# Altium integrated library TI Power Management Hot Swap.IntLib: 76 symbols (part 3 of 5)
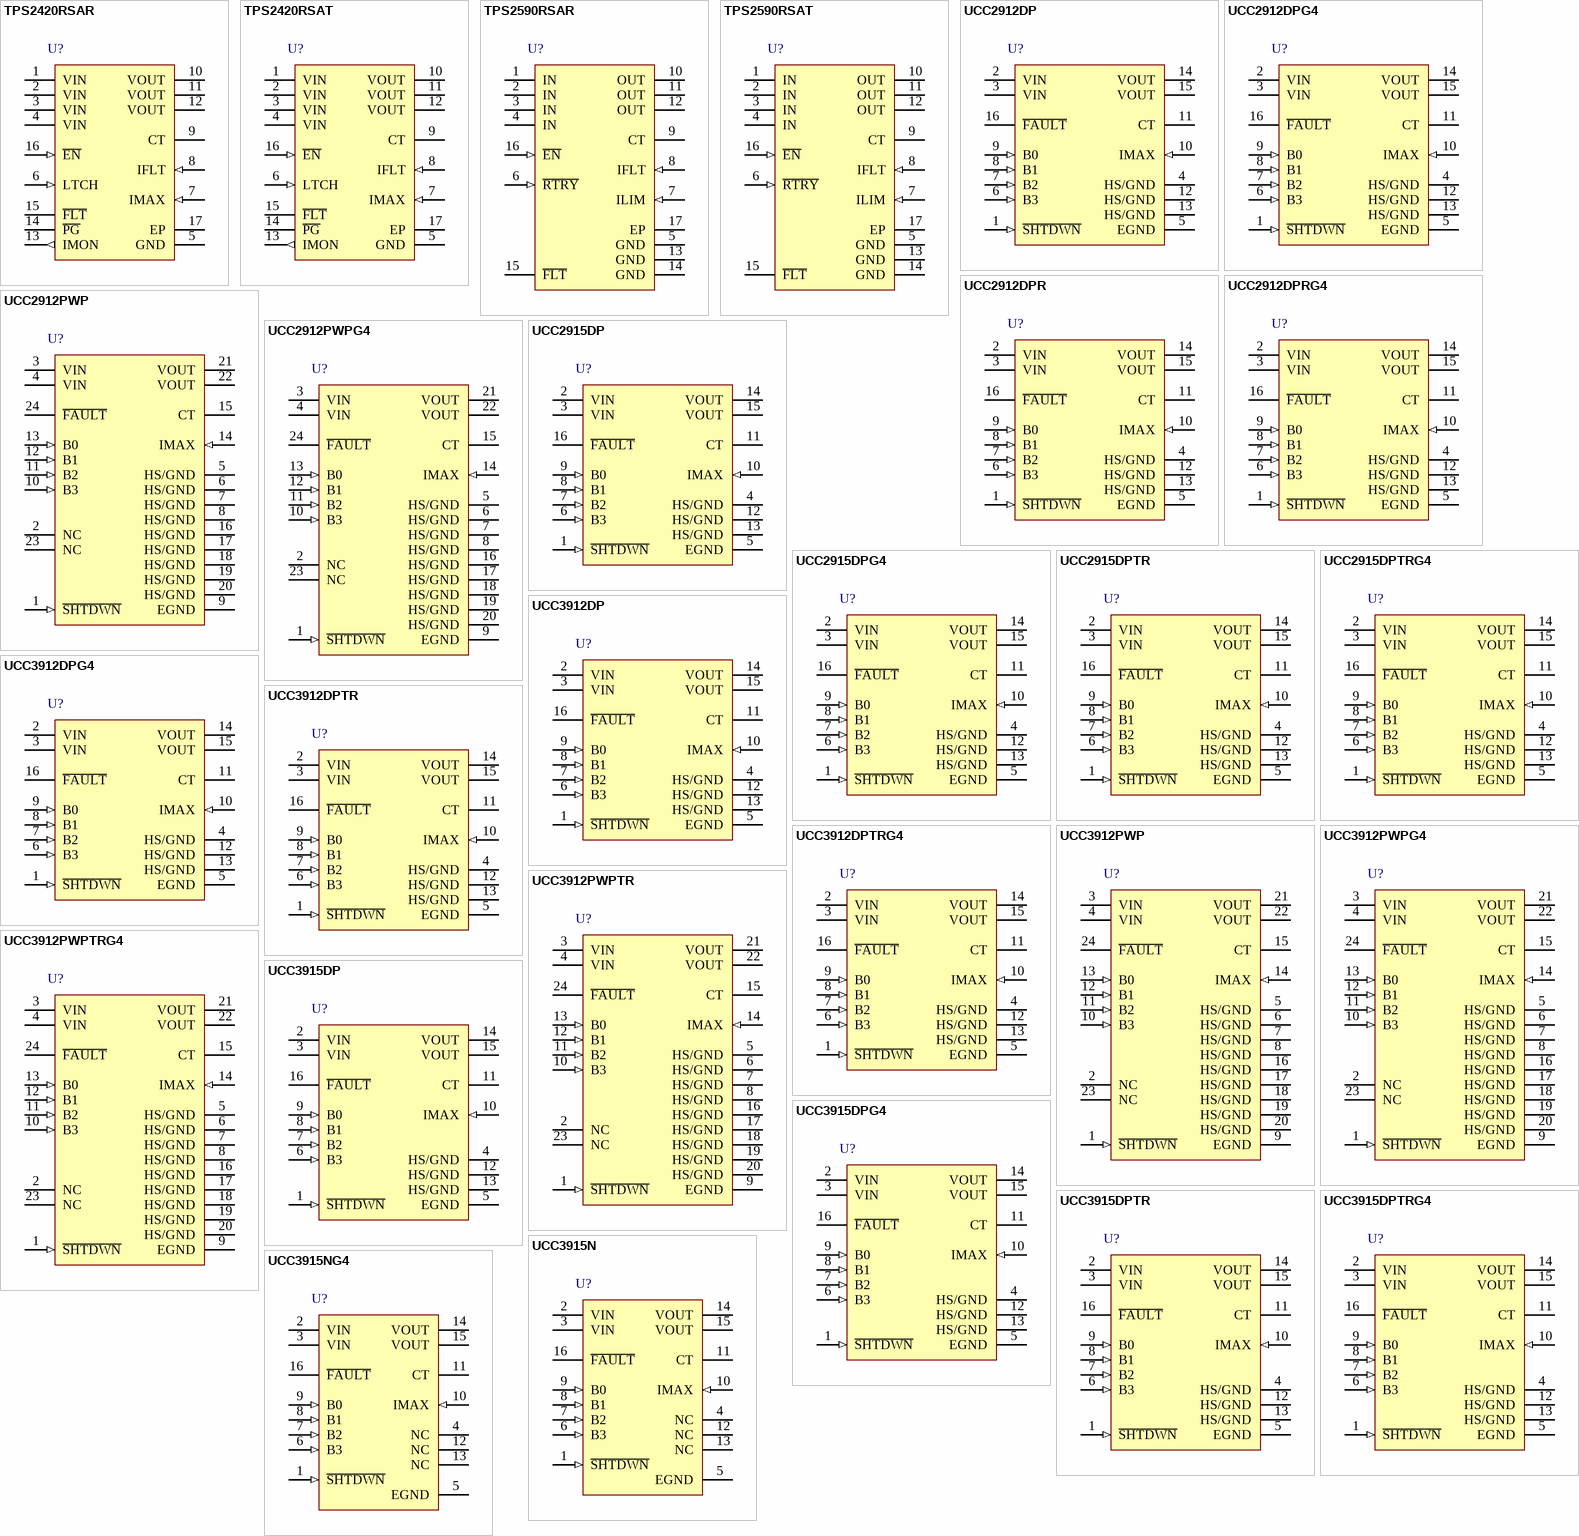
[diagram p4: symbols TPS2420RSAR to UCC3915NG4]

## UCC2912DP
designator U?
Programmable Hot Swap Switch Power Manager, -40 to 85 degC, 16-pin SOIC (D), Green (RoHS & no Sb/Br); Manufacturer: Texas Instruments; PartNumber: UCC2912DP; Over Temp Reporting: TRUE; Rds(ON) FET(Typ)(mOhms): 150; SubFamily: Hot-Swap Switch (Integrated FET); Vin(Max)(V): 8; Vin(Min)(V): 3; DatasheetVersion: SLUS241D; PackageVersion: revM, Jun-2011; PackageReference: D16; PackageDescription: 16-Pin Plastic Small Outline Integrated Circuit, 9.9 x 3.9 mm, Pitch 1.27 mm Pitch; Supplier 1: Digi-Key; Supplier Part Number 1: 296-16715-5-ND; Supplier 2: Newark; Supplier Part Number 2: 87H4709; Supplier 3: Mouser; Supplier Part Number 3: 595-UCC2912DP; Eco-Plan: Green (RoHS & no Sb/Br); Mounting Technology: Surface Mount; Code_JEDEC: MS-012AC; ComponentLink1Description: Datasheet; ComponentLink1URL: http://www.ti.com/general/docs/lit/getliterature.tsp?genericPartNumber=UCC2912&fileType=pdf; ComponentLink2Description: URL Link1; ComponentLink2URL: Samples URL:http://www.ti.com/product/ucc2912#samples
footprint D16_N (SOIC, 16-Leads, Body 9.9x3.9mm, Pitch 1.27mm, IPC Medium Density)
footprint D16_L (SOIC, 16-Leads, Body 9.9x3.9mm, Pitch 1.27mm, IPC High Density)
footprint D16_M (SOIC, 16-Leads, Body 9.9x3.9mm, Pitch 1.27mm, IPC Low Density)
pins: 1 ~{SHTDWN} (in) "When this pin is brought to a logic low, the IC is put into a sleep mode drawing typically less than 1 uA of ICC. The input threshold is hysteretic, allowing the user to program a startup delay with an external RC circuit.", 2 VIN (power) "Input voltage to the UCC3912. The recommended voltage range is 3 V to 8 V. Both VIN pins should be connected together and to the power source.", 3 VIN (power) "Input voltage to the UCC3912. The recommended voltage range is 3 V to 8 V. Both VIN pins should be connected together and to the power source.", 4 HS/GND (power) "The ground reference for the device.", 5 EGND (power) "The ground reference for the device.", 6 B3 (in) "These pins provide digital input to the DAC which sets the fault current threshold. They can be used to provide a digital soft-start, adaptive current limiting.", 7 B2 (in) "These pins provide digital input to the DAC which sets the fault current threshold. They can be used to provide a digital soft-start, adaptive current limiting.", 8 B1 (in) "These pins provide digital input to the DAC which sets the fault current threshold. They can be used to provide a digital soft-start, adaptive current limiting.", 9 B0 (in) "These pins provide digital input to the DAC which sets the fault current threshold. They can be used to provide a digital soft-start, adaptive current limiting.", 10 IMAX (in) "When this pin is set to logic low the maximum sourcing current will always be 1 A above the programmed fault level. When set to logic high, the maximum sourcing current will be a constant 4 A for applications which require (See Datasheet)", 11 CT "A capacitor connected to ground sets the maximum fault time. The maximum fault time must be more than the time to charge the external capacitance in one cycle. The maximum fault time is defined as FAULT = 27.8 x 10^3 x CT. (See Datasheet)", 12 HS/GND (power) "The ground reference for the device.", 13 HS/GND (power) "The ground reference for the device.", 14 VOUT (power) "Output voltage from the UCC3912. When switched the output voltage will be approximately VIN - (0.15 ohm x IOUT). Both VOUT pins should be connected together and to the load.", 15 VOUT (power) "Output voltage from the UCC3912. When switched the output voltage will be approximately VIN - (0.15 ohm x IOUT). Both VOUT pins should be connected together and to the load.", 16 ~{FAULT} (oc) "Open drain output which pulls low upon any condition which causes the output to open: fault, thermal shutdown, or shutdown."

## UCC2912DPG4
designator U?
Programmable Hot Swap Switch Power Manager, -40 to 85 degC, 16-pin SOIC (D), Green (RoHS & no Sb/Br); Manufacturer: Texas Instruments; PartNumber: UCC2912DPG4; Over Temp Reporting: TRUE; Rds(ON) FET(Typ)(mOhms): 150; SubFamily: Hot-Swap Switch (Integrated FET); Vin(Max)(V): 8; Vin(Min)(V): 3; DatasheetVersion: SLUS241D; PackageVersion: revM, Jun-2011; PackageReference: D16; PackageDescription: 16-Pin Plastic Small Outline Integrated Circuit, 9.9 x 3.9 mm, Pitch 1.27 mm Pitch; Supplier 1: Digi-Key; Supplier Part Number 1: UCC2912DPG4-ND; Supplier 2: Newark; Supplier Part Number 2: 58K7053; Supplier 3: Mouser; Supplier Part Number 3: 595-UCC2912DPG4; Eco-Plan: Green (RoHS & no Sb/Br); Mounting Technology: Surface Mount; Code_JEDEC: MS-012AC; ComponentLink1Description: Datasheet; ComponentLink1URL: http://www.ti.com/general/docs/lit/getliterature.tsp?genericPartNumber=UCC2912&fileType=pdf; ComponentLink2Description: URL Link1; ComponentLink2URL: Samples URL:http://www.ti.com/product/ucc2912#samples
footprint D16_N (SOIC, 16-Leads, Body 9.9x3.9mm, Pitch 1.27mm, IPC Medium Density)
footprint D16_L (SOIC, 16-Leads, Body 9.9x3.9mm, Pitch 1.27mm, IPC High Density)
footprint D16_M (SOIC, 16-Leads, Body 9.9x3.9mm, Pitch 1.27mm, IPC Low Density)
pins: 1 ~{SHTDWN} (in) "When this pin is brought to a logic low, the IC is put into a sleep mode drawing typically less than 1 uA of ICC. The input threshold is hysteretic, allowing the user to program a startup delay with an external RC circuit.", 2 VIN (power) "Input voltage to the UCC3912. The recommended voltage range is 3 V to 8 V. Both VIN pins should be connected together and to the power source.", 3 VIN (power) "Input voltage to the UCC3912. The recommended voltage range is 3 V to 8 V. Both VIN pins should be connected together and to the power source.", 4 HS/GND (power) "The ground reference for the device.", 5 EGND (power) "The ground reference for the device.", 6 B3 (in) "These pins provide digital input to the DAC which sets the fault current threshold. They can be used to provide a digital soft-start, adaptive current limiting.", 7 B2 (in) "These pins provide digital input to the DAC which sets the fault current threshold. They can be used to provide a digital soft-start, adaptive current limiting.", 8 B1 (in) "These pins provide digital input to the DAC which sets the fault current threshold. They can be used to provide a digital soft-start, adaptive current limiting.", 9 B0 (in) "These pins provide digital input to the DAC which sets the fault current threshold. They can be used to provide a digital soft-start, adaptive current limiting.", 10 IMAX (in) "When this pin is set to logic low the maximum sourcing current will always be 1 A above the programmed fault level. When set to logic high, the maximum sourcing current will be a constant 4 A for applications which require (See Datasheet)", 11 CT "A capacitor connected to ground sets the maximum fault time. The maximum fault time must be more than the time to charge the external capacitance in one cycle. The maximum fault time is defined as FAULT = 27.8 x 10^3 x CT. (See Datasheet)", 12 HS/GND (power) "The ground reference for the device.", 13 HS/GND (power) "The ground reference for the device.", 14 VOUT (power) "Output voltage from the UCC3912. When switched the output voltage will be approximately VIN - (0.15 ohm x IOUT). Both VOUT pins should be connected together and to the load.", 15 VOUT (power) "Output voltage from the UCC3912. When switched the output voltage will be approximately VIN - (0.15 ohm x IOUT). Both VOUT pins should be connected together and to the load.", 16 ~{FAULT} (oc) "Open drain output which pulls low upon any condition which causes the output to open: fault, thermal shutdown, or shutdown."

## UCC2912DPR
designator U?
Programmable Hot Swap Switch Power Manager, 3 to 8 V, -40 to 85 degC, 16-pin SOIC (D), Green (RoHS & no Sb/Br); Manufacturer: Texas Instruments; PartNumber: UCC2912DPR; Over Temp Reporting: TRUE; Rds(ON) FET(Typ)(mOhms): 150; SubFamily: Hot-Swap Switch (Integrated FET); Vin(Max)(V): 8; Vin(Min)(V): 3; DatasheetVersion: SLUS241D; PackageVersion: revM, Jun-2011; PackageReference: D16; PackageDescription: 16-Pin Plastic Small Outline Integrated Circuit, 9.9 x 3.9 mm, Pitch 1.27 mm Pitch; Supplier 1: Digi-Key; Supplier Part Number 1: UCC2912DPR-ND; Supplier 2: Newark; Supplier Part Number 2: 87H4710; Supplier 3: Mouser; Supplier Part Number 3: 595-UCC2912DPR; Eco-Plan: Green (RoHS & no Sb/Br); Mounting Technology: Surface Mount; Code_JEDEC: MS-012AC; ComponentLink1Description: Datasheet; ComponentLink1URL: http://www.ti.com/general/docs/lit/getliterature.tsp?genericPartNumber=UCC2912&fileType=pdf; ComponentLink2Description: URL Link1; ComponentLink2URL: Samples URL:http://www.ti.com/product/ucc2912#samples
footprint D16_N (SOIC, 16-Leads, Body 9.9x3.9mm, Pitch 1.27mm, IPC Medium Density)
footprint D16_L (SOIC, 16-Leads, Body 9.9x3.9mm, Pitch 1.27mm, IPC High Density)
footprint D16_M (SOIC, 16-Leads, Body 9.9x3.9mm, Pitch 1.27mm, IPC Low Density)
pins: 1 ~{SHTDWN} (in) "When this pin is brought to a logic low, the IC is put into a sleep mode drawing typically less than 1 uA of ICC. The input threshold is hysteretic, allowing the user to program a startup delay with an external RC circuit.", 2 VIN (power) "Input voltage to the UCC3912. The recommended voltage range is 3 V to 8 V. Both VIN pins should be connected together and to the power source.", 3 VIN (power) "Input voltage to the UCC3912. The recommended voltage range is 3 V to 8 V. Both VIN pins should be connected together and to the power source.", 4 HS/GND (power) "The ground reference for the device.", 5 EGND (power) "The ground reference for the device.", 6 B3 (in) "These pins provide digital input to the DAC which sets the fault current threshold. They can be used to provide a digital soft-start, adaptive current limiting.", 7 B2 (in) "These pins provide digital input to the DAC which sets the fault current threshold. They can be used to provide a digital soft-start, adaptive current limiting.", 8 B1 (in) "These pins provide digital input to the DAC which sets the fault current threshold. They can be used to provide a digital soft-start, adaptive current limiting.", 9 B0 (in) "These pins provide digital input to the DAC which sets the fault current threshold. They can be used to provide a digital soft-start, adaptive current limiting.", 10 IMAX (in) "When this pin is set to logic low the maximum sourcing current will always be 1 A above the programmed fault level. When set to logic high, the maximum sourcing current will be a constant 4 A for applications which require (See Datasheet)", 11 CT "A capacitor connected to ground sets the maximum fault time. The maximum fault time must be more than the time to charge the external capacitance in one cycle. The maximum fault time is defined as FAULT = 27.8 x 10^3 x CT. (See Datasheet)", 12 HS/GND (power) "The ground reference for the device.", 13 HS/GND (power) "The ground reference for the device.", 14 VOUT (power) "Output voltage from the UCC3912. When switched the output voltage will be approximately VIN - (0.15 ohm x IOUT). Both VOUT pins should be connected together and to the load.", 15 VOUT (power) "Output voltage from the UCC3912. When switched the output voltage will be approximately VIN - (0.15 ohm x IOUT). Both VOUT pins should be connected together and to the load.", 16 ~{FAULT} (oc) "Open drain output which pulls low upon any condition which causes the output to open: fault, thermal shutdown, or shutdown."

## UCC2912DPRG4
designator U?
Programmable Hot Swap Switch Power Manager, 3 to 8 V, -40 to 85 degC, 16-pin SOIC (D), Green (RoHS & no Sb/Br); Manufacturer: Texas Instruments; PartNumber: UCC2912DPRG4; Over Temp Reporting: TRUE; Rds(ON) FET(Typ)(mOhms): 150; SubFamily: Hot-Swap Switch (Integrated FET); Vin(Max)(V): 8; Vin(Min)(V): 3; DatasheetVersion: SLUS241D; PackageVersion: revM, Jun-2011; PackageReference: D16; PackageDescription: 16-Pin Plastic Small Outline Integrated Circuit, 9.9 x 3.9 mm, Pitch 1.27 mm Pitch; Supplier 1: Digi-Key; Supplier Part Number 1: UCC2912DPRG4-ND; Supplier 2: Newark; Supplier Part Number 2: 54K2060; Supplier 3: Mouser; Supplier Part Number 3: 595-UCC2912DPRG4; Eco-Plan: Green (RoHS & no Sb/Br); Mounting Technology: Surface Mount; Code_JEDEC: MS-012AC; ComponentLink1Description: Datasheet; ComponentLink1URL: http://www.ti.com/general/docs/lit/getliterature.tsp?genericPartNumber=UCC2912&fileType=pdf; ComponentLink2Description: URL Link1; ComponentLink2URL: Samples URL:http://www.ti.com/product/ucc2912#samples
footprint D16_N (SOIC, 16-Leads, Body 9.9x3.9mm, Pitch 1.27mm, IPC Medium Density)
footprint D16_L (SOIC, 16-Leads, Body 9.9x3.9mm, Pitch 1.27mm, IPC High Density)
footprint D16_M (SOIC, 16-Leads, Body 9.9x3.9mm, Pitch 1.27mm, IPC Low Density)
pins: 1 ~{SHTDWN} (in) "When this pin is brought to a logic low, the IC is put into a sleep mode drawing typically less than 1 uA of ICC. The input threshold is hysteretic, allowing the user to program a startup delay with an external RC circuit.", 2 VIN (power) "Input voltage to the UCC3912. The recommended voltage range is 3 V to 8 V. Both VIN pins should be connected together and to the power source.", 3 VIN (power) "Input voltage to the UCC3912. The recommended voltage range is 3 V to 8 V. Both VIN pins should be connected together and to the power source.", 4 HS/GND (power) "The ground reference for the device.", 5 EGND (power) "The ground reference for the device.", 6 B3 (in) "These pins provide digital input to the DAC which sets the fault current threshold. They can be used to provide a digital soft-start, adaptive current limiting.", 7 B2 (in) "These pins provide digital input to the DAC which sets the fault current threshold. They can be used to provide a digital soft-start, adaptive current limiting.", 8 B1 (in) "These pins provide digital input to the DAC which sets the fault current threshold. They can be used to provide a digital soft-start, adaptive current limiting.", 9 B0 (in) "These pins provide digital input to the DAC which sets the fault current threshold. They can be used to provide a digital soft-start, adaptive current limiting.", 10 IMAX (in) "When this pin is set to logic low the maximum sourcing current will always be 1 A above the programmed fault level. When set to logic high, the maximum sourcing current will be a constant 4 A for applications which require (See Datasheet)", 11 CT "A capacitor connected to ground sets the maximum fault time. The maximum fault time must be more than the time to charge the external capacitance in one cycle. The maximum fault time is defined as FAULT = 27.8 x 10^3 x CT. (See Datasheet)", 12 HS/GND (power) "The ground reference for the device.", 13 HS/GND (power) "The ground reference for the device.", 14 VOUT (power) "Output voltage from the UCC3912. When switched the output voltage will be approximately VIN - (0.15 ohm x IOUT). Both VOUT pins should be connected together and to the load.", 15 VOUT (power) "Output voltage from the UCC3912. When switched the output voltage will be approximately VIN - (0.15 ohm x IOUT). Both VOUT pins should be connected together and to the load.", 16 ~{FAULT} (oc) "Open drain output which pulls low upon any condition which causes the output to open: fault, thermal shutdown, or shutdown."

## UCC2912PWP
designator U?
Programmable Hot Swap Switch Power Manager, -40 to 85 degC, 24-pin TSSOP (PW), Green (RoHS & no Sb/Br); Manufacturer: Texas Instruments; PartNumber: UCC2912PWP; Over Temp Reporting: TRUE; Rds(ON) FET(Typ)(mOhms): 150; SubFamily: Hot-Swap Switch (Integrated FET); Vin(Max)(V): 8; Vin(Min)(V): 3; DatasheetVersion: SLUS241D; PackageVersion: revG, Feb-2011; PackageReference: PW24; PackageDescription: 24-Pin Thin Small Outline Package 0.65 mm Pitch; Supplier 1: Digi-Key; Supplier Part Number 1: 296-16716-ND; Supplier 2: Newark; Supplier Part Number 2: 87H4711; Supplier 3: Mouser; Supplier Part Number 3: 595-UCC2912PWP; Eco-Plan: Green (RoHS & no Sb/Br); Mounting Technology: Surface Mount; Code_JEDEC: MO-153; ComponentLink1Description: Datasheet; ComponentLink1URL: http://www.ti.com/general/docs/lit/getliterature.tsp?genericPartNumber=UCC2912&fileType=pdf; ComponentLink2Description: URL Link1; ComponentLink2URL: Samples URL:http://www.ti.com/product/ucc2912#samples
footprint PW24_N (TSOP, 24-Leads, Body 7.8x4.4mm, Pitch 0.65mm, IPC Medium Density)
footprint PW24_L (TSOP, 24-Leads, Body 7.8x4.4mm, Pitch 0.65mm, IPC High Density)
footprint PW24_M (TSOP, 24-Leads, Body 7.8x4.4mm, Pitch 0.65mm, IPC Low Density)
pins: 1 ~{SHTDWN} (in) "When this pin is brought to a logic low, the IC is put into a sleep mode drawing typically less than 1 uA of ICC. The input threshold is hysteretic, allowing the user to program a startup delay with an external RC circuit.", 2 NC "Not connected.", 3 VIN (power) "Input voltage to the UCC3912. The recommended voltage range is 3 V to 8 V. Both VIN pins should be connected together and to the power source.", 4 VIN (power) "Input voltage to the UCC3912. The recommended voltage range is 3 V to 8 V. Both VIN pins should be connected together and to the power source.", 5 HS/GND (power) "(ground) All voltages measured with respect to ground.", 6 HS/GND (power) "(ground) All voltages measured with respect to ground.", 7 HS/GND (power) "(ground) All voltages measured with respect to ground.", 8 HS/GND (power) "(ground) All voltages measured with respect to ground.", 9 EGND (power) "(ground) All voltages measured with respect to ground.", 10 B3 (in) "The pin provides digital input to the DAC which sets the fault current threshold. It can be used to provide a digital soft-start, adaptive current limiting.", 11 B2 (in) "The pin provides digital input to the DAC which sets the fault current threshold. It can be used to provide a digital soft-start, adaptive current limiting.", 12 B1 (in) "The pin provides digital input to the DAC which sets the fault current threshold. It can be used to provide a digital soft-start, adaptive current limiting.", 13 B0 (in) "The pin provides digital input to the DAC which sets the fault current threshold. It can be used to provide a digital soft-start, adaptive current limiting.", 14 IMAX (in) "When this pin is set to logic low the maximum sourcing current will always be 1 A above the programmed fault level. When set to logic high, the maximum sourcing current will be a constant 4 A for applications which require (See Datasheet)", 15 CT "A capacitor connected to ground sets the maximum fault time. The maximum fault time must be more than the time to charge the external capacitance in one cycle. The maximum fault time is defined as FAULT = 27.8 x 103 x CT. (See Datasheet)", 16 HS/GND (power) "(ground) All voltages measured with respect to ground.", 17 HS/GND (power) "(ground) All voltages measured with respect to ground.", 18 HS/GND (power) "(ground) All voltages measured with respect to ground.", 19 HS/GND (power) "(ground) All voltages measured with respect to ground.", 20 HS/GND (power) "(ground) All voltages measured with respect to ground.", 21 VOUT (power) "Output voltage from the UCC3912. When switched the output voltage will be approximately VIN - (0.15 ohm x IOUT). Both VOUT pins should be connected together and to the load.", 22 VOUT (power) "Output voltage from the UCC3912. When switched the output voltage will be approximately VIN - (0.15 ohm x IOUT). Both VOUT pins should be connected together and to the load.", 23 NC "Not connected.", 24 ~{FAULT} (oc) "Open drain output which pulls low upon any condition which causes the output to open: fault, thermal shutdown, or shutdown."

## UCC2912PWPG4
designator U?
Programmable Hot Swap Switch Power Manager, -40 to 85 degC, 24-pin TSSOP (PW), Green (RoHS & no Sb/Br); Manufacturer: Texas Instruments; PartNumber: UCC2912PWPG4; Rds(ON) FET(Typ)(mOhms): 150; SubFamily: Hot-Swap Switch (Integrated FET); Vin(Max)(V): 8; Vin(Min)(V): 3; DatasheetVersion: SLUS241D; PackageVersion: revG, Feb-2011; PackageReference: PW24; PackageDescription: 24-Pin Thin Small Outline Package 0.65 mm Pitch; Supplier 1: Digi-Key; Supplier Part Number 1: UCC2912PWPG4-ND; Supplier 2: Newark; Supplier Part Number 2: 04M0325; Supplier 3: Mouser; Supplier Part Number 3: 595-UCC2912PWPG4; Eco-Plan: Green (RoHS & no Sb/Br); Mounting Technology: Surface Mount; Code_JEDEC: MO-153; ComponentLink1Description: Datasheet; ComponentLink1URL: http://www.ti.com/general/docs/lit/getliterature.tsp?genericPartNumber=UCC2912&fileType=pdf; ComponentLink2Description: URL Link1; ComponentLink2URL: Samples URL:http://www.ti.com/product/tps2590#samples
footprint PW24_N (TSOP, 24-Leads, Body 7.8x4.4mm, Pitch 0.65mm, IPC Medium Density)
footprint PW24_L (TSOP, 24-Leads, Body 7.8x4.4mm, Pitch 0.65mm, IPC High Density)
footprint PW24_M (TSOP, 24-Leads, Body 7.8x4.4mm, Pitch 0.65mm, IPC Low Density)
pins: 1 ~{SHTDWN} (in) "When this pin is brought to a logic low, the IC is put into a sleep mode drawing typically less than 1 uA of ICC. The input threshold is hysteretic, allowing the user to program a startup delay with an external RC circuit.", 2 NC "Not connected.", 3 VIN (power) "Input voltage to the UCC3912. The recommended voltage range is 3 V to 8 V. Both VIN pins should be connected together and to the power source.", 4 VIN (power) "Input voltage to the UCC3912. The recommended voltage range is 3 V to 8 V. Both VIN pins should be connected together and to the power source.", 5 HS/GND (power) "(ground) All voltages measured with respect to ground.", 6 HS/GND (power) "(ground) All voltages measured with respect to ground.", 7 HS/GND (power) "(ground) All voltages measured with respect to ground.", 8 HS/GND (power) "(ground) All voltages measured with respect to ground.", 9 EGND (power) "(ground) All voltages measured with respect to ground.", 10 B3 (in) "The pin provides digital input to the DAC which sets the fault current threshold. It can be used to provide a digital soft-start, adaptive current limiting.", 11 B2 (in) "The pin provides digital input to the DAC which sets the fault current threshold. It can be used to provide a digital soft-start, adaptive current limiting.", 12 B1 (in) "The pin provides digital input to the DAC which sets the fault current threshold. It can be used to provide a digital soft-start, adaptive current limiting.", 13 B0 (in) "The pin provides digital input to the DAC which sets the fault current threshold. It can be used to provide a digital soft-start, adaptive current limiting.", 14 IMAX (in) "When this pin is set to logic low the maximum sourcing current will always be 1 A above the programmed fault level. When set to logic high, the maximum sourcing current will be a constant 4 A for applications which require (See Datasheet)", 15 CT "A capacitor connected to ground sets the maximum fault time. The maximum fault time must be more than the time to charge the external capacitance in one cycle. The maximum fault time is defined as FAULT = 27.8 x 103 x CT. (See Datasheet)", 16 HS/GND (power) "(ground) All voltages measured with respect to ground.", 17 HS/GND (power) "(ground) All voltages measured with respect to ground.", 18 HS/GND (power) "(ground) All voltages measured with respect to ground.", 19 HS/GND (power) "(ground) All voltages measured with respect to ground.", 20 HS/GND (power) "(ground) All voltages measured with respect to ground.", 21 VOUT (power) "Output voltage from the UCC3912. When switched the output voltage will be approximately VIN - (0.15 ohm x IOUT). Both VOUT pins should be connected together and to the load.", 22 VOUT (power) "Output voltage from the UCC3912. When switched the output voltage will be approximately VIN - (0.15 ohm x IOUT). Both VOUT pins should be connected together and to the load.", 23 NC "Not connected.", 24 ~{FAULT} (oc) "Open drain output which pulls low upon any condition which causes the output to open: fault, thermal shutdown, or shutdown."

## UCC2915DP
designator U?
0 to 3 A, 7 to 15 V Single Hot-Swap IC Hi-Side MOSFET, 100 uA IQ in Sleep Mode, -40 to 85 degC, 16-pin SOIC (D), Green (RoHS & no Sb/Br); Manufacturer: Texas Instruments; PartNumber: UCC2915DP; Over Temp Reporting: TRUE; Rds(ON) FET(Typ)(mOhms): 150; SubFamily: Hot-Swap Switch (Integrated FET); Vin(Max)(V): 15; Vin(Min)(V): 7; DatasheetVersion: SLUS198C; PackageVersion: revM, Jun-2011; PackageReference: D16; PackageDescription: 16-Pin Plastic Small Outline Integrated Circuit, 9.9 x 3.9 mm, Pitch 1.27 mm Pitch; Supplier 1: Digi-Key; Supplier Part Number 1: 296-2329-5-ND; Supplier 2: Newark; Supplier Part Number 2: 77C2190; Supplier 3: Mouser; Supplier Part Number 3: 595-UCC2915DP; Eco-Plan: Green (RoHS & no Sb/Br); Mounting Technology: Surface Mount; Code_JEDEC: MS-012AC; ComponentLink1Description: Datasheet; ComponentLink1URL: http://www.ti.com/general/docs/lit/getliterature.tsp?genericPartNumber=UCC2915&fileType=pdf; ComponentLink2Description: URL Link1; ComponentLink2URL: Samples URL:http://www.ti.com/product/ucc2915#samples
footprint D16_N (SOIC, 16-Leads, Body 9.9x3.9mm, Pitch 1.27mm, IPC Medium Density)
footprint D16_L (SOIC, 16-Leads, Body 9.9x3.9mm, Pitch 1.27mm, IPC High Density)
footprint D16_M (SOIC, 16-Leads, Body 9.9x3.9mm, Pitch 1.27mm, IPC Low Density)
pins: 1 ~{SHTDWN} (in) "When this pin is brought to a logic low, the IC is put into a sleep mode drawing typically less than 100 uA of ICC.The input threshold is hysteretic, allowing the user to program a startup delay with an external RC circuit.", 2 VIN (power) "Input voltage to the UCC3915. The recommended voltage range is 7 V to 15 V. Both VIN pins should be connected together and connected to the power source.", 3 VIN (power) "Input voltage to the UCC3915. The recommended voltage range is 7 V to 15 V. Both VIN pins should be connected together and connected to the power source.", 4 HS/GND (power) "These pins should be connected to large etch areas to help dissipate heat.", 5 EGND (power) "Earth connection.", 6 B3 (in) "These pins provide digital input to the DAC, which sets the fault-current threshold. They can be used to provide a digital soft-start and adaptive-current limiting.", 7 B2 (in) "These pins provide digital input to the DAC, which sets the fault-current threshold. They can be used to provide a digital soft-start and adaptive-current limiting.", 8 B1 (in) "These pins provide digital input to the DAC, which sets the fault-current threshold. They can be used to provide a digital soft-start and adaptive-current limiting.", 9 B0 (in) "These pins provide digital input to the DAC, which sets the fault-current threshold. They can be used to provide a digital soft-start and adaptive-current limiting.", 10 IMAX (in) "When this pin is set to a logic low, the maximum-sourcing current will always be 1 A above the programmed-fault level. When set to a logic high, the maximum-sourcing current will be a constant 4 A for applications which (See Datasheet)", 11 CT "A capacitor connected to ground sets the maximum-fault time. The maximum-fault time must be more than the time required to charge the external capacitance in one cycle. The maximum-fault time is defined as TFAULT = 16.1 x (See Datasheet)", 12 HS/GND (power) "These pins should be connected to large etch areas to help dissipate heat.", 13 HS/GND (power) "These pins should be connected to large etch areas to help dissipate heat.", 14 VOUT (power) "Output voltage from the UCC3915. Both VOUT pins should be connected together and connected to the load. When switched the output voltage will be approximately VIN - (0.15 ohmx IOUT). VOUT must not exceed VIN by greater than (See Datasheet)", 15 VOUT (power) "Output voltage from the UCC3915. Both VOUT pins should be connected together and connected to the load. When switched the output voltage will be approximately VIN - (0.15 ohmx IOUT). VOUT must not exceed VIN by greater than (See Datasheet)", 16 ~{FAULT} (oc) "Open-drain output, which pulls low upon any fault or interrupt condition, or thermal shutdown."

## UCC2915DPG4
designator U?
0 to 3 A, 7 to 15 V Single Hot-Swap IC Hi-Side MOSFET, 100 uA IQ in Sleep Mode, -40 to 85 degC, 16-pin SOIC (D), Green (RoHS & no Sb/Br); Manufacturer: Texas Instruments; PartNumber: UCC2915DPG4; Over Temp Reporting: TRUE; Rds(ON) FET(Typ)(mOhms): 150; SubFamily: Hot-Swap Switch (Integrated FET); Vin(Max)(V): 15; Vin(Min)(V): 7; DatasheetVersion: SLUS198C; PackageVersion: revM, Jun-2011; PackageReference: D16; PackageDescription: 16-Pin Plastic Small Outline Integrated Circuit, 9.9 x 3.9 mm, Pitch 1.27 mm Pitch; Supplier 1: Digi-Key; Supplier Part Number 1: UCC2915DPG4-ND; Supplier 2: Newark; Supplier Part Number 2: 70K5900; Supplier 3: Mouser; Supplier Part Number 3: 595-UCC2915DPG4; Eco-Plan: Green (RoHS & no Sb/Br); Mounting Technology: Surface Mount; Code_JEDEC: MS-012AC; ComponentLink1Description: Datasheet; ComponentLink1URL: http://www.ti.com/general/docs/lit/getliterature.tsp?genericPartNumber=UCC2915&fileType=pdf; ComponentLink2Description: URL Link1; ComponentLink2URL: Samples URL:http://www.ti.com/product/ucc2915#samples
footprint D16_N (SOIC, 16-Leads, Body 9.9x3.9mm, Pitch 1.27mm, IPC Medium Density)
footprint D16_L (SOIC, 16-Leads, Body 9.9x3.9mm, Pitch 1.27mm, IPC High Density)
footprint D16_M (SOIC, 16-Leads, Body 9.9x3.9mm, Pitch 1.27mm, IPC Low Density)
pins: 1 ~{SHTDWN} (in) "When this pin is brought to a logic low, the IC is put into a sleep mode drawing typically less than 100 uA of ICC.The input threshold is hysteretic, allowing the user to program a startup delay with an external RC circuit.", 2 VIN (power) "Input voltage to the UCC3915. The recommended voltage range is 7 V to 15 V. Both VIN pins should be connected together and connected to the power source.", 3 VIN (power) "Input voltage to the UCC3915. The recommended voltage range is 7 V to 15 V. Both VIN pins should be connected together and connected to the power source.", 4 HS/GND (power) "These pins should be connected to large etch areas to help dissipate heat.", 5 EGND (power) "Earth connection.", 6 B3 (in) "These pins provide digital input to the DAC, which sets the fault-current threshold. They can be used to provide a digital soft-start and adaptive-current limiting.", 7 B2 (in) "These pins provide digital input to the DAC, which sets the fault-current threshold. They can be used to provide a digital soft-start and adaptive-current limiting.", 8 B1 (in) "These pins provide digital input to the DAC, which sets the fault-current threshold. They can be used to provide a digital soft-start and adaptive-current limiting.", 9 B0 (in) "These pins provide digital input to the DAC, which sets the fault-current threshold. They can be used to provide a digital soft-start and adaptive-current limiting.", 10 IMAX (in) "When this pin is set to a logic low, the maximum-sourcing current will always be 1 A above the programmed-fault level. When set to a logic high, the maximum-sourcing current will be a constant 4 A for applications which (See Datasheet)", 11 CT "A capacitor connected to ground sets the maximum-fault time. The maximum-fault time must be more than the time required to charge the external capacitance in one cycle. The maximum-fault time is defined as TFAULT = 16.1 x (See Datasheet)", 12 HS/GND (power) "These pins should be connected to large etch areas to help dissipate heat.", 13 HS/GND (power) "These pins should be connected to large etch areas to help dissipate heat.", 14 VOUT (power) "Output voltage from the UCC3915. Both VOUT pins should be connected together and connected to the load. When switched the output voltage will be approximately VIN - (0.15 ohmx IOUT). VOUT must not exceed VIN by greater than (See Datasheet)", 15 VOUT (power) "Output voltage from the UCC3915. Both VOUT pins should be connected together and connected to the load. When switched the output voltage will be approximately VIN - (0.15 ohmx IOUT). VOUT must not exceed VIN by greater than (See Datasheet)", 16 ~{FAULT} (oc) "Open-drain output, which pulls low upon any fault or interrupt condition, or thermal shutdown."

## UCC2915DPTR
designator U?
0 to 3 A, 7 to 15 V Single Hot-Swap IC Hi-Side MOSFET, 100 uA IQ in Sleep Mode, -40 to 85 degC, 16-pin SOIC (D); Manufacturer: Texas Instruments; PartNumber: UCC2915DPTR; Eco-Plan: Green (RoHS & no Sb/Br); Over Temp Reporting: TRUE; Rds(ON) FET(Typ)(mOhms): 150; SubFamily: Hot-Swap Switch (Integrated FET); Vin(Max)(V): 15; Vin(Min)(V): 7; DatasheetVersion: SLUS198C; PackageVersion: revM, Jun-2011; PackageReference: D16; PackageDescription: 16-Pin Plastic Small Outline Integrated Circuit, 9.9 x 3.9 mm, Pitch 1.27 mm Pitch; Supplier 1: Digi-Key; Supplier Part Number 1: UCC2915DPTR-ND; Supplier 2: Newark; Supplier Part Number 2: 77C2191; Supplier 3: Mouser; Supplier Part Number 3: 595-UCC2915DPTR; Mounting Technology: Surface Mount; Code_JEDEC: MS-012AC; ComponentLink1Description: Datasheet; ComponentLink1URL: http://www.ti.com/general/docs/lit/getliterature.tsp?genericPartNumber=UCC2915&fileType=pdf; ComponentLink2Description: URL Link1; ComponentLink2URL: Samples URL:http://www.ti.com/product/ucc2915#samples
footprint D16_N (SOIC, 16-Leads, Body 9.9x3.9mm, Pitch 1.27mm, IPC Medium Density)
footprint D16_L (SOIC, 16-Leads, Body 9.9x3.9mm, Pitch 1.27mm, IPC High Density)
footprint D16_M (SOIC, 16-Leads, Body 9.9x3.9mm, Pitch 1.27mm, IPC Low Density)
pins: 1 ~{SHTDWN} (in) "When this pin is brought to a logic low, the IC is put into a sleep mode drawing typically less than 100 uA of ICC.The input threshold is hysteretic, allowing the user to program a startup delay with an external RC circuit.", 2 VIN (power) "Input voltage to the UCC3915. The recommended voltage range is 7 V to 15 V. Both VIN pins should be connected together and connected to the power source.", 3 VIN (power) "Input voltage to the UCC3915. The recommended voltage range is 7 V to 15 V. Both VIN pins should be connected together and connected to the power source.", 4 HS/GND (power) "These pins should be connected to large etch areas to help dissipate heat.", 5 EGND (power) "Earth connection.", 6 B3 (in) "These pins provide digital input to the DAC, which sets the fault-current threshold. They can be used to provide a digital soft-start and adaptive-current limiting.", 7 B2 (in) "These pins provide digital input to the DAC, which sets the fault-current threshold. They can be used to provide a digital soft-start and adaptive-current limiting.", 8 B1 (in) "These pins provide digital input to the DAC, which sets the fault-current threshold. They can be used to provide a digital soft-start and adaptive-current limiting.", 9 B0 (in) "These pins provide digital input to the DAC, which sets the fault-current threshold. They can be used to provide a digital soft-start and adaptive-current limiting.", 10 IMAX (in) "When this pin is set to a logic low, the maximum-sourcing current will always be 1 A above the programmed-fault level. When set to a logic high, the maximum-sourcing current will be a constant 4 A for applications which (See Datasheet)", 11 CT "A capacitor connected to ground sets the maximum-fault time. The maximum-fault time must be more than the time required to charge the external capacitance in one cycle. The maximum-fault time is defined as TFAULT = 16.1 x (See Datasheet)", 12 HS/GND (power) "These pins should be connected to large etch areas to help dissipate heat.", 13 HS/GND (power) "These pins should be connected to large etch areas to help dissipate heat.", 14 VOUT (power) "Output voltage from the UCC3915. Both VOUT pins should be connected together and connected to the load. When switched the output voltage will be approximately VIN - (0.15 ohmx IOUT). VOUT must not exceed VIN by greater than (See Datasheet)", 15 VOUT (power) "Output voltage from the UCC3915. Both VOUT pins should be connected together and connected to the load. When switched the output voltage will be approximately VIN - (0.15 ohmx IOUT). VOUT must not exceed VIN by greater than (See Datasheet)", 16 ~{FAULT} (oc) "Open-drain output, which pulls low upon any fault or interrupt condition, or thermal shutdown."

## UCC2915DPTRG4
designator U?
0 to 3 A, 7 to 15 V Single Hot-Swap IC Hi-Side MOSFET, 100 uA IQ in Sleep Mode, -40 to 85 degC, 16-pin SOIC (D); Manufacturer: Texas Instruments; PartNumber: UCC2915DPTRG4; Eco-Plan: Green (RoHS & no Sb/Br); Over Temp Reporting: TRUE; Rds(ON) FET(Typ)(mOhms): 150; SubFamily: Hot-Swap Switch (Integrated FET); Vin(Max)(V): 15; Vin(Min)(V): 7; DatasheetVersion: SLUS198C; PackageVersion: revM, Jun-2011; PackageReference: D16; PackageDescription: 16-Pin Plastic Small Outline Integrated Circuit, 9.9 x 3.9 mm, Pitch 1.27 mm Pitch; Supplier 1: Digi-Key; Supplier Part Number 1: UCC2915DPTRG4-ND; Supplier 2: Newark; Supplier Part Number 2: 54K2061; Supplier 3: Mouser; Supplier Part Number 3: 595-UCC2915DPTRG4; Mounting Technology: Surface Mount; Code_JEDEC: MS-012AC; ComponentLink1Description: Datasheet; ComponentLink1URL: http://www.ti.com/general/docs/lit/getliterature.tsp?genericPartNumber=UCC2915&fileType=pdf; ComponentLink2Description: URL Link1; ComponentLink2URL: Samples URL:http://www.ti.com/product/ucc2915#samples
footprint D16_N (SOIC, 16-Leads, Body 9.9x3.9mm, Pitch 1.27mm, IPC Medium Density)
footprint D16_L (SOIC, 16-Leads, Body 9.9x3.9mm, Pitch 1.27mm, IPC High Density)
footprint D16_M (SOIC, 16-Leads, Body 9.9x3.9mm, Pitch 1.27mm, IPC Low Density)
pins: 1 ~{SHTDWN} (in) "When this pin is brought to a logic low, the IC is put into a sleep mode drawing typically less than 100 uA of ICC.The input threshold is hysteretic, allowing the user to program a startup delay with an external RC circuit.", 2 VIN (power) "Input voltage to the UCC3915. The recommended voltage range is 7 V to 15 V. Both VIN pins should be connected together and connected to the power source.", 3 VIN (power) "Input voltage to the UCC3915. The recommended voltage range is 7 V to 15 V. Both VIN pins should be connected together and connected to the power source.", 4 HS/GND (power) "These pins should be connected to large etch areas to help dissipate heat.", 5 EGND (power) "Earth connection.", 6 B3 (in) "These pins provide digital input to the DAC, which sets the fault-current threshold. They can be used to provide a digital soft-start and adaptive-current limiting.", 7 B2 (in) "These pins provide digital input to the DAC, which sets the fault-current threshold. They can be used to provide a digital soft-start and adaptive-current limiting.", 8 B1 (in) "These pins provide digital input to the DAC, which sets the fault-current threshold. They can be used to provide a digital soft-start and adaptive-current limiting.", 9 B0 (in) "These pins provide digital input to the DAC, which sets the fault-current threshold. They can be used to provide a digital soft-start and adaptive-current limiting.", 10 IMAX (in) "When this pin is set to a logic low, the maximum-sourcing current will always be 1 A above the programmed-fault level. When set to a logic high, the maximum-sourcing current will be a constant 4 A for applications which (See Datasheet)", 11 CT "A capacitor connected to ground sets the maximum-fault time. The maximum-fault time must be more than the time required to charge the external capacitance in one cycle. The maximum-fault time is defined as TFAULT = 16.1 x (See Datasheet)", 12 HS/GND (power) "These pins should be connected to large etch areas to help dissipate heat.", 13 HS/GND (power) "These pins should be connected to large etch areas to help dissipate heat.", 14 VOUT (power) "Output voltage from the UCC3915. Both VOUT pins should be connected together and connected to the load. When switched the output voltage will be approximately VIN - (0.15 ohmx IOUT). VOUT must not exceed VIN by greater than (See Datasheet)", 15 VOUT (power) "Output voltage from the UCC3915. Both VOUT pins should be connected together and connected to the load. When switched the output voltage will be approximately VIN - (0.15 ohmx IOUT). VOUT must not exceed VIN by greater than (See Datasheet)", 16 ~{FAULT} (oc) "Open-drain output, which pulls low upon any fault or interrupt condition, or thermal shutdown."

## UCC3912DP
designator U?
0 to 3 A, 3 to 8 V Single Hot-Swap IC Hi-Side MOSFET, 0 to 70 degC, 16-pin SOIC (D), Green (RoHS & no Sb/Br); Manufacturer: Texas Instruments; PartNumber: UCC3912DP; Over Temp Reporting: TRUE; Rds(ON) FET(Typ)(mOhms): 150; SubFamily: Hot-Swap Switch (Integrated FET); Vin(Max)(V): 8; Vin(Min)(V): 3; DatasheetVersion: SLUS241D; PackageVersion: revM, Jun-2011; PackageReference: D16; PackageDescription: 16-Pin Plastic Small Outline Integrated Circuit, 9.9 x 3.9 mm, Pitch 1.27 mm Pitch; Supplier 1: Digi-Key; Supplier Part Number 1: 296-2333-5-ND; Supplier 2: Newark; Supplier Part Number 2: 77C2562; Supplier 3: Mouser; Supplier Part Number 3: 595-UCC3912DP; Eco-Plan: Green (RoHS & no Sb/Br); Mounting Technology: Surface Mount; Code_JEDEC: MS-012AC; ComponentLink1Description: Datasheet; ComponentLink1URL: http://www.ti.com/general/docs/lit/getliterature.tsp?genericPartNumber=UCC3912&fileType=pdf; ComponentLink2Description: URL Link1; ComponentLink2URL: Samples URL:http://www.ti.com/product/ucc3912#samples
footprint D16_N (SOIC, 16-Leads, Body 9.9x3.9mm, Pitch 1.27mm, IPC Medium Density)
footprint D16_L (SOIC, 16-Leads, Body 9.9x3.9mm, Pitch 1.27mm, IPC High Density)
footprint D16_M (SOIC, 16-Leads, Body 9.9x3.9mm, Pitch 1.27mm, IPC Low Density)
pins: 1 ~{SHTDWN} (in) "When this pin is brought to a logic low, the IC is put into a sleep mode drawing typically less than 1 uA of ICC. The input threshold is hysteretic, allowing the user to program a startup delay with an external RC circuit.", 2 VIN (power) "Input voltage to the UCC3912. The recommended voltage range is 3 V to 8 V. Both VIN pins should be connected together and to the power source.", 3 VIN (power) "Input voltage to the UCC3912. The recommended voltage range is 3 V to 8 V. Both VIN pins should be connected together and to the power source.", 4 HS/GND (power) "serve as heat sink/ground.", 5 EGND (power) "serves as lowest impedance to the electrical ground", 6 B3 (in) "These pins provide digital input to the DAC which sets the fault current threshold. They can be used to provide a digital soft-start, adaptive current limiting.", 7 B2 (in) "These pins provide digital input to the DAC which sets the fault current threshold. They can be used to provide a digital soft-start, adaptive current limiting.", 8 B1 (in) "These pins provide digital input to the DAC which sets the fault current threshold. They can be used to provide a digital soft-start, adaptive current limiting.", 9 B0 (in) "These pins provide digital input to the DAC which sets the fault current threshold. They can be used to provide a digital soft-start, adaptive current limiting.", 10 IMAX (in) "When this pin is set to logic low the maximum sourcing current will always be 1 A above the programmed fault level. When set to logic high, the maximum sourcing current will be a constant 4 A for applications which require (See Datasheet)", 11 CT "A capacitor connected to ground sets the maximum fault time. The maximum fault time must be more than the time to charge the external capacitance in one cycle.The maximum fault time is defined as FAULT = 27.8 x 10^3 x CT. (See Datasheet)", 12 HS/GND (power) "serve as heat sink/ground.", 13 HS/GND (power) "serve as heat sink/ground.", 14 VOUT (power) "Output voltage from the UCC3912. When switched the output voltage will be approximately VIN - (0.15 ohm x IOUT). Both VOUT pins should be connected together and to the load.", 15 VOUT (power) "Output voltage from the UCC3912. When switched the output voltage will be approximately VIN - (0.15 ohm x IOUT). Both VOUT pins should be connected together and to the load.", 16 ~{FAULT} (oc) "Open drain output which pulls low upon any condition which causes the output to open: fault, thermal shutdown, or shutdown."

## UCC3912DPG4
designator U?
0 to 3 A, 3 to 8 V Single Hot-Swap IC Hi-Side MOSFET, 0 to 70 degC, 16-pin SOIC (D), Green (RoHS & no Sb/Br); Manufacturer: Texas Instruments; PartNumber: UCC3912DPG4; Over Temp Reporting: TRUE; Rds(ON) FET(Typ)(mOhms): 150; SubFamily: Hot-Swap Switch (Integrated FET); Vin(Max)(V): 8; Vin(Min)(V): 3; DatasheetVersion: SLUS241D; PackageVersion: revM, Jun-2011; PackageReference: D16; PackageDescription: 16-Pin Plastic Small Outline Integrated Circuit, 9.9 x 3.9 mm, Pitch 1.27 mm Pitch; Supplier 1: Digi-Key; Supplier Part Number 1: UCC3912DPG4-ND; Supplier 2: Newark; Supplier Part Number 2: 58K7082; Supplier 3: Mouser; Supplier Part Number 3: 595-UCC3912DPG4; Eco-Plan: Green (RoHS & no Sb/Br); Mounting Technology: Surface Mount; Code_JEDEC: MS-012AC; ComponentLink1Description: Datasheet; ComponentLink1URL: http://www.ti.com/general/docs/lit/getliterature.tsp?genericPartNumber=UCC3912&fileType=pdf; ComponentLink2Description: URL Link1; ComponentLink2URL: Samples URL:http://www.ti.com/product/ucc3912#samples
footprint D16_N (SOIC, 16-Leads, Body 9.9x3.9mm, Pitch 1.27mm, IPC Medium Density)
footprint D16_L (SOIC, 16-Leads, Body 9.9x3.9mm, Pitch 1.27mm, IPC High Density)
footprint D16_M (SOIC, 16-Leads, Body 9.9x3.9mm, Pitch 1.27mm, IPC Low Density)
pins: 1 ~{SHTDWN} (in) "When this pin is brought to a logic low, the IC is put into a sleep mode drawing typically less than 1 uA of ICC. The input threshold is hysteretic, allowing the user to program a startup delay with an external RC circuit.", 2 VIN (power) "Input voltage to the UCC3912. The recommended voltage range is 3 V to 8 V. Both VIN pins should be connected together and to the power source.", 3 VIN (power) "Input voltage to the UCC3912. The recommended voltage range is 3 V to 8 V. Both VIN pins should be connected together and to the power source.", 4 HS/GND (power) "serve as heat sink/ground.", 5 EGND (power) "serves as lowest impedance to the electrical ground", 6 B3 (in) "These pins provide digital input to the DAC which sets the fault current threshold. They can be used to provide a digital soft-start, adaptive current limiting.", 7 B2 (in) "These pins provide digital input to the DAC which sets the fault current threshold. They can be used to provide a digital soft-start, adaptive current limiting.", 8 B1 (in) "These pins provide digital input to the DAC which sets the fault current threshold. They can be used to provide a digital soft-start, adaptive current limiting.", 9 B0 (in) "These pins provide digital input to the DAC which sets the fault current threshold. They can be used to provide a digital soft-start, adaptive current limiting.", 10 IMAX (in) "When this pin is set to logic low the maximum sourcing current will always be 1 A above the programmed fault level. When set to logic high, the maximum sourcing current will be a constant 4 A for applications which require (See Datasheet)", 11 CT "A capacitor connected to ground sets the maximum fault time. The maximum fault time must be more than the time to charge the external capacitance in one cycle.The maximum fault time is defined as FAULT = 27.8 x 10^3 x CT. (See Datasheet)", 12 HS/GND (power) "serve as heat sink/ground.", 13 HS/GND (power) "serve as heat sink/ground.", 14 VOUT (power) "Output voltage from the UCC3912. When switched the output voltage will be approximately VIN - (0.15 ohm x IOUT). Both VOUT pins should be connected together and to the load.", 15 VOUT (power) "Output voltage from the UCC3912. When switched the output voltage will be approximately VIN - (0.15 ohm x IOUT). Both VOUT pins should be connected together and to the load.", 16 ~{FAULT} (oc) "Open drain output which pulls low upon any condition which causes the output to open: fault, thermal shutdown, or shutdown."